# EAGLE library part ATTINY43U (library bt_avr)
ATtiny43U The 20-pin, high-performance, ultra low-voltage 8-bit AVR RISC-based microcontroller combines 4KB flash memory, 64B EEPROM, 256B SRAM, 16 general purpose I/O lines, 32 general purpose working registers, two 8-bit timer/counters with two PWM channels, internal and external interrupts, a 4-channel 10-bit A/D converter, a universal serial interface (USI), programmable watchdog timer with internal oscillator, internal calibrated oscillator, and three software selectable power saving modes. Built-in boost voltage converter providing 3V to the processor while only requiring between 0.7-1.8 volts from its external power supply (1.8-5.5 volts when the voltage converter is bypassed). Datasheet.pdf <http://ww1.microchip.com/downloads/en/DeviceDoc/doc8048.pdf>
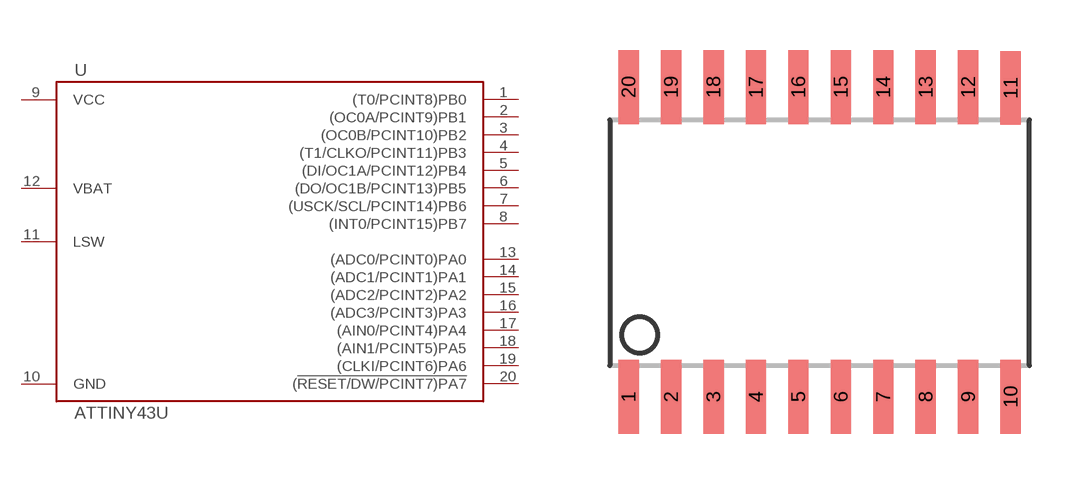
[diagram p9: symbol with the pads of SOIC20; footprint SOIC20]

Designator prefix U

## ATTINY43U-SU  [SOIC20]
1  (T0/PCINT8)PB0
2  (OC0A/PCINT9)PB1
3  (OC0B/PCINT10)PB2
4  (T1/CLKO/PCINT11)PB3
5  (DI/OC1A/PCINT12)PB4
6  (DO/OC1B/PCINT13)PB5
7  (USCK/SCL/PCINT14)PB6
8  (INT0/PCINT15)PB7
9  VCC
10  GND
11  LSW
12  VBAT
13  (ADC0/PCINT0)PA0
14  (ADC1/PCINT1)PA1
15  (ADC2/PCINT2)PA2
16  (ADC3/PCINT3)PA3
17  (AIN0/PCINT4)PA4
18  (AIN1/PCINT5)PA5
19  (CLKI/PCINT6)PA6
20  (!RESET/DW/PCINT7)PA7

## Footprint SOIC20 (pad centres in mm)
Small Outline Package, large
smd 0.61 x 2.21: 1 -5.715,-4.636; 2 -4.445,-4.636; 3 -3.175,-4.636; 4 -1.905,-4.636; 5 -0.635,-4.636; 6 0.635,-4.636; 7 1.905,-4.636; 8 3.175,-4.636; 9 4.445,-4.636; 10 5.715,-4.636; 11 5.715,4.61; 12 4.445,4.636; 13 3.175,4.636; 14 1.905,4.636; 15 0.635,4.636; 16 -0.635,4.636; 17 -1.905,4.636; 18 -3.175,4.636; 19 -4.445,4.636; 20 -5.715,4.636